# Altium footprint library IC_SMD_BGA.PCBLIB: 109 footprints (part 13 of 14)
Each footprint in its own frame and in the unit in brackets; x right, y up, seen from the top. Pads: shape width x height; smd on the part's side, far side on the other; paste and mask are expansions set on the pad; w line width, h text height; cw(c..) or ccw(c..) is an arc to the next point about the centre after c.
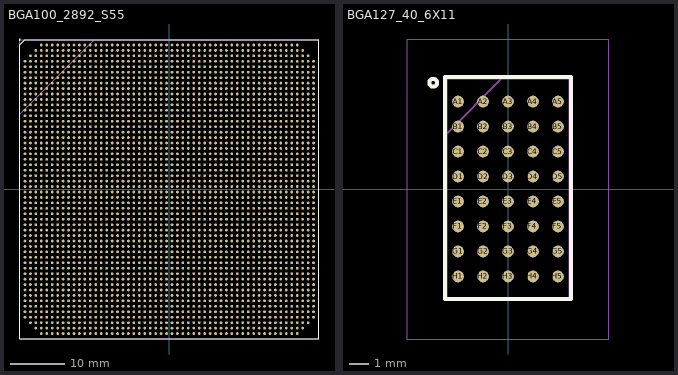
[diagram p12: the footprints below, top view; thin cyan lines are the x and y axes]

## BGA100_2892_S55 [mm] "BGA, 2892-Leads, Body 55x55mmx4.30mm, Pitch 1.00mm"
pads (2892):
  round 0.5 smd: A4(-23.5,26.5) A5(-22.5,26.5) A6(-21.5,26.5) A7(-20.5,26.5) A8(-19.5,26.5) A9(-18.5,26.5) A10(-17.5,26.5) A11(-16.5,26.5) A12(-15.5,26.5) A13(-14.5,26.5) A14(-13.5,26.5) A15(-12.5,26.5) A16(-11.5,26.5) A17(-10.5,26.5) A18(-9.5,26.5) A19(-8.5,26.5) A20(-7.5,26.5) A21(-6.5,26.5) A22(-5.5,26.5) A23(-4.5,26.5) A24(-3.5,26.5) A25(-2.5,26.5) A26(-1.5,26.5) A27(-0.5,26.5) A28(0.5,26.5) A29(1.5,26.5) A30(2.5,26.5) A31(3.5,26.5) A32(4.5,26.5) A33(5.5,26.5) A34(6.5,26.5) A35(7.5,26.5) A36(8.5,26.5) A37(9.5,26.5) A38(10.5,26.5) A39(11.5,26.5) A40(12.5,26.5) A41(13.5,26.5) A42(14.5,26.5) A43(15.5,26.5) A44(16.5,26.5) A45(17.5,26.5) A46(18.5,26.5) A47(19.5,26.5) A48(20.5,26.5) A49(21.5,26.5) A50(22.5,26.5) A51(23.5,26.5) AA1(-26.5,6.5) AA2(-25.5,6.5) AA3(-24.5,6.5) AA4(-23.5,6.5) AA5(-22.5,6.5) AA6(-21.5,6.5) AA7(-20.5,6.5) AA8(-19.5,6.5) AA9(-18.5,6.5) AA10(-17.5,6.5) AA11(-16.5,6.5) AA12(-15.5,6.5) AA13(-14.5,6.5) AA14(-13.5,6.5) AA15(-12.5,6.5) AA16(-11.5,6.5) AA17(-10.5,6.5) AA18(-9.5,6.5) AA19(-8.5,6.5) AA20(-7.5,6.5) AA21(-6.5,6.5) AA22(-5.5,6.5) AA23(-4.5,6.5) AA24(-3.5,6.5) AA25(-2.5,6.5) AA26(-1.5,6.5) AA27(-0.5,6.5) AA28(0.5,6.5) AA29(1.5,6.5) AA30(2.5,6.5) AA31(3.5,6.5) AA32(4.5,6.5) AA33(5.5,6.5) AA34(6.5,6.5) AA35(7.5,6.5) AA36(8.5,6.5) AA37(9.5,6.5) AA38(10.5,6.5) AA39(11.5,6.5) AA40(12.5,6.5) AA41(13.5,6.5) AA42(14.5,6.5) AA43(15.5,6.5) AA44(16.5,6.5) AA45(17.5,6.5) AA46(18.5,6.5) AA47(19.5,6.5) AA48(20.5,6.5) AA49(21.5,6.5) AA50(22.5,6.5) AA51(23.5,6.5) AA52(24.5,6.5) AA53(25.5,6.5) AA54(26.5,6.5) AB1(-26.5,5.5) AB2(-25.5,5.5) AB3(-24.5,5.5) AB4(-23.5,5.5) AB5(-22.5,5.5) AB6(-21.5,5.5) AB7(-20.5,5.5) AB8(-19.5,5.5) AB9(-18.5,5.5) AB10(-17.5,5.5) AB11(-16.5,5.5) AB12(-15.5,5.5) AB13(-14.5,5.5) AB14(-13.5,5.5) AB15(-12.5,5.5) AB16(-11.5,5.5) AB17(-10.5,5.5) AB18(-9.5,5.5) AB19(-8.5,5.5) AB20(-7.5,5.5) AB21(-6.5,5.5) AB22(-5.5,5.5) AB23(-4.5,5.5) AB24(-3.5,5.5) AB25(-2.5,5.5) AB26(-1.5,5.5) AB27(-0.5,5.5) AB28(0.5,5.5) AB29(1.5,5.5) AB30(2.5,5.5) AB31(3.5,5.5) AB32(4.5,5.5) AB33(5.5,5.5) AB34(6.5,5.5) AB35(7.5,5.5) AB36(8.5,5.5) AB37(9.5,5.5) AB38(10.5,5.5) AB39(11.5,5.5) AB40(12.5,5.5) AB41(13.5,5.5) AB42(14.5,5.5) AB43(15.5,5.5) AB44(16.5,5.5) AB45(17.5,5.5) AB46(18.5,5.5) AB47(19.5,5.5) AB48(20.5,5.5) AB49(21.5,5.5) AB50(22.5,5.5) AB51(23.5,5.5) AB52(24.5,5.5) AB53(25.5,5.5) AB54(26.5,5.5) AC1(-26.5,4.5) AC2(-25.5,4.5) AC3(-24.5,4.5) AC4(-23.5,4.5) AC5(-22.5,4.5) AC6(-21.5,4.5) AC7(-20.5,4.5) AC8(-19.5,4.5) AC9(-18.5,4.5) AC10(-17.5,4.5) AC11(-16.5,4.5) AC12(-15.5,4.5) AC13(-14.5,4.5) AC14(-13.5,4.5) AC15(-12.5,4.5) AC16(-11.5,4.5) AC17(-10.5,4.5) AC18(-9.5,4.5) AC19(-8.5,4.5) AC20(-7.5,4.5) AC21(-6.5,4.5) AC22(-5.5,4.5) AC23(-4.5,4.5) AC24(-3.5,4.5) AC25(-2.5,4.5) AC26(-1.5,4.5) AC27(-0.5,4.5) AC28(0.5,4.5) AC29(1.5,4.5) AC30(2.5,4.5) AC31(3.5,4.5) AC32(4.5,4.5) AC33(5.5,4.5) AC34(6.5,4.5) AC35(7.5,4.5) AC36(8.5,4.5) AC37(9.5,4.5) AC38(10.5,4.5) AC39(11.5,4.5) AC40(12.5,4.5) AC41(13.5,4.5) AC42(14.5,4.5) AC43(15.5,4.5) AC44(16.5,4.5) AC45(17.5,4.5) AC46(18.5,4.5) AC47(19.5,4.5) AC48(20.5,4.5) AC49(21.5,4.5) AC50(22.5,4.5) AC51(23.5,4.5) AC52(24.5,4.5) AC53(25.5,4.5) AC54(26.5,4.5) AD1(-26.5,3.5) AD2(-25.5,3.5) AD3(-24.5,3.5) AD4(-23.5,3.5) AD5(-22.5,3.5) AD6(-21.5,3.5) AD7(-20.5,3.5) AD8(-19.5,3.5) AD9(-18.5,3.5) AD10(-17.5,3.5) AD11(-16.5,3.5) AD12(-15.5,3.5) AD13(-14.5,3.5) AD14(-13.5,3.5) AD15(-12.5,3.5) AD16(-11.5,3.5) AD17(-10.5,3.5) AD18(-9.5,3.5) AD19(-8.5,3.5) AD20(-7.5,3.5) AD21(-6.5,3.5) AD22(-5.5,3.5) AD23(-4.5,3.5) AD24(-3.5,3.5) AD25(-2.5,3.5) AD26(-1.5,3.5) AD27(-0.5,3.5) AD28(0.5,3.5) AD29(1.5,3.5) AD30(2.5,3.5) AD31(3.5,3.5) AD32(4.5,3.5) AD33(5.5,3.5) AD34(6.5,3.5) AD35(7.5,3.5) AD36(8.5,3.5) AD37(9.5,3.5) AD38(10.5,3.5) AD39(11.5,3.5) AD40(12.5,3.5) AD41(13.5,3.5) AD42(14.5,3.5) AD43(15.5,3.5) AD44(16.5,3.5) AD45(17.5,3.5) AD46(18.5,3.5) AD47(19.5,3.5) AD48(20.5,3.5) AD49(21.5,3.5) AD50(22.5,3.5) AD51(23.5,3.5) AD52(24.5,3.5) AD53(25.5,3.5) AD54(26.5,3.5) AE1(-26.5,2.5) AE2(-25.5,2.5) AE3(-24.5,2.5) AE4(-23.5,2.5) AE5(-22.5,2.5) AE6(-21.5,2.5) AE7(-20.5,2.5) AE8(-19.5,2.5) AE9(-18.5,2.5) AE10(-17.5,2.5) AE11(-16.5,2.5) AE12(-15.5,2.5) AE13(-14.5,2.5) AE14(-13.5,2.5) AE15(-12.5,2.5) AE16(-11.5,2.5) AE17(-10.5,2.5) AE18(-9.5,2.5) AE19(-8.5,2.5) AE20(-7.5,2.5) AE21(-6.5,2.5) AE22(-5.5,2.5) AE23(-4.5,2.5) AE24(-3.5,2.5) AE25(-2.5,2.5) AE26(-1.5,2.5) AE27(-0.5,2.5) AE28(0.5,2.5) AE29(1.5,2.5) AE30(2.5,2.5) AE31(3.5,2.5) AE32(4.5,2.5) AE33(5.5,2.5) AE34(6.5,2.5) AE35(7.5,2.5) AE36(8.5,2.5) AE37(9.5,2.5) AE38(10.5,2.5) AE39(11.5,2.5) AE40(12.5,2.5) AE41(13.5,2.5) AE42(14.5,2.5) AE43(15.5,2.5) AE44(16.5,2.5) AE45(17.5,2.5) AE46(18.5,2.5) AE47(19.5,2.5) AE48(20.5,2.5) AE49(21.5,2.5) AE50(22.5,2.5) AE51(23.5,2.5) AE52(24.5,2.5) AE53(25.5,2.5) AE54(26.5,2.5) AF1(-26.5,1.5) AF2(-25.5,1.5) AF3(-24.5,1.5) AF4(-23.5,1.5) AF5(-22.5,1.5) AF6(-21.5,1.5) AF7(-20.5,1.5) AF8(-19.5,1.5) AF9(-18.5,1.5) AF10(-17.5,1.5) AF11(-16.5,1.5) AF12(-15.5,1.5) AF13(-14.5,1.5) AF14(-13.5,1.5) AF15(-12.5,1.5) AF16(-11.5,1.5) AF17(-10.5,1.5) AF18(-9.5,1.5) AF19(-8.5,1.5) AF20(-7.5,1.5) AF21(-6.5,1.5) AF22(-5.5,1.5) AF23(-4.5,1.5) AF24(-3.5,1.5) AF25(-2.5,1.5) AF26(-1.5,1.5) AF27(-0.5,1.5) AF28(0.5,1.5) AF29(1.5,1.5) AF30(2.5,1.5) AF31(3.5,1.5) AF32(4.5,1.5) AF33(5.5,1.5) AF34(6.5,1.5) AF35(7.5,1.5) AF36(8.5,1.5) AF37(9.5,1.5) AF38(10.5,1.5) AF39(11.5,1.5) AF40(12.5,1.5) AF41(13.5,1.5) AF42(14.5,1.5) AF43(15.5,1.5) AF44(16.5,1.5) AF45(17.5,1.5) AF46(18.5,1.5) AF47(19.5,1.5) AF48(20.5,1.5) AF49(21.5,1.5) AF50(22.5,1.5) AF51(23.5,1.5) AF52(24.5,1.5) AF53(25.5,1.5) AF54(26.5,1.5) AG1(-26.5,0.5) AG2(-25.5,0.5) AG3(-24.5,0.5) AG4(-23.5,0.5) AG5(-22.5,0.5) AG6(-21.5,0.5) AG7(-20.5,0.5) AG8(-19.5,0.5) AG9(-18.5,0.5) AG10(-17.5,0.5) AG11(-16.5,0.5) AG12(-15.5,0.5) AG13(-14.5,0.5) AG14(-13.5,0.5) AG15(-12.5,0.5) AG16(-11.5,0.5) AG17(-10.5,0.5) AG18(-9.5,0.5) AG19(-8.5,0.5) AG20(-7.5,0.5) AG21(-6.5,0.5) AG22(-5.5,0.5) AG23(-4.5,0.5) AG24(-3.5,0.5) AG25(-2.5,0.5) AG26(-1.5,0.5) AG27(-0.5,0.5) AG28(0.5,0.5) AG29(1.5,0.5) AG30(2.5,0.5) AG31(3.5,0.5) AG32(4.5,0.5) AG33(5.5,0.5) AG34(6.5,0.5) AG35(7.5,0.5) AG36(8.5,0.5) AG37(9.5,0.5) AG38(10.5,0.5) AG39(11.5,0.5) AG40(12.5,0.5) AG41(13.5,0.5) AG42(14.5,0.5) AG43(15.5,0.5) AG44(16.5,0.5) AG45(17.5,0.5) AG46(18.5,0.5) AG47(19.5,0.5) AG48(20.5,0.5) AG49(21.5,0.5) AG50(22.5,0.5) AG51(23.5,0.5) AG52(24.5,0.5) AG53(25.5,0.5) AG54(26.5,0.5) AH1(-26.5,-0.5) AH2(-25.5,-0.5) AH3(-24.5,-0.5) AH4(-23.5,-0.5) AH5(-22.5,-0.5) AH6(-21.5,-0.5) AH7(-20.5,-0.5) AH8(-19.5,-0.5) AH9(-18.5,-0.5) AH10(-17.5,-0.5) AH11(-16.5,-0.5) AH12(-15.5,-0.5) AH13(-14.5,-0.5) AH14(-13.5,-0.5) AH15(-12.5,-0.5) AH16(-11.5,-0.5) AH17(-10.5,-0.5) AH18(-9.5,-0.5) AH19(-8.5,-0.5) AH20(-7.5,-0.5) AH21(-6.5,-0.5) AH22(-5.5,-0.5) AH23(-4.5,-0.5) AH24(-3.5,-0.5) AH25(-2.5,-0.5) AH26(-1.5,-0.5) AH27(-0.5,-0.5) AH28(0.5,-0.5) AH29(1.5,-0.5) AH30(2.5,-0.5) AH31(3.5,-0.5) AH32(4.5,-0.5) AH33(5.5,-0.5) AH34(6.5,-0.5) AH35(7.5,-0.5) AH36(8.5,-0.5) AH37(9.5,-0.5) AH38(10.5,-0.5) AH39(11.5,-0.5) AH40(12.5,-0.5) AH41(13.5,-0.5) AH42(14.5,-0.5) AH43(15.5,-0.5) AH44(16.5,-0.5) AH45(17.5,-0.5) AH46(18.5,-0.5) AH47(19.5,-0.5) AH48(20.5,-0.5) AH49(21.5,-0.5) AH50(22.5,-0.5) AH51(23.5,-0.5) AH52(24.5,-0.5) AH53(25.5,-0.5) AH54(26.5,-0.5) AJ1(-26.5,-1.5) AJ2(-25.5,-1.5) AJ3(-24.5,-1.5) AJ4(-23.5,-1.5) AJ5(-22.5,-1.5) AJ6(-21.5,-1.5) AJ7(-20.5,-1.5) AJ8(-19.5,-1.5) AJ9(-18.5,-1.5) AJ10(-17.5,-1.5) AJ11(-16.5,-1.5) AJ12(-15.5,-1.5) AJ13(-14.5,-1.5) AJ14(-13.5,-1.5) AJ15(-12.5,-1.5) AJ16(-11.5,-1.5) AJ17(-10.5,-1.5) AJ18(-9.5,-1.5) AJ19(-8.5,-1.5) AJ20(-7.5,-1.5) AJ21(-6.5,-1.5) AJ22(-5.5,-1.5) AJ23(-4.5,-1.5) AJ24(-3.5,-1.5) AJ25(-2.5,-1.5) AJ26(-1.5,-1.5) AJ27(-0.5,-1.5) AJ28(0.5,-1.5) AJ29(1.5,-1.5) AJ30(2.5,-1.5) AJ31(3.5,-1.5) AJ32(4.5,-1.5) AJ33(5.5,-1.5) AJ34(6.5,-1.5) AJ35(7.5,-1.5) AJ36(8.5,-1.5) AJ37(9.5,-1.5) AJ38(10.5,-1.5) AJ39(11.5,-1.5) AJ40(12.5,-1.5) AJ41(13.5,-1.5) AJ42(14.5,-1.5) AJ43(15.5,-1.5) AJ44(16.5,-1.5) AJ45(17.5,-1.5) AJ46(18.5,-1.5) AJ47(19.5,-1.5) AJ48(20.5,-1.5) AJ49(21.5,-1.5) AJ50(22.5,-1.5) AJ51(23.5,-1.5) AJ52(24.5,-1.5) AJ53(25.5,-1.5) AJ54(26.5,-1.5) AK1(-26.5,-2.5) AK2(-25.5,-2.5) AK3(-24.5,-2.5) AK4(-23.5,-2.5) AK5(-22.5,-2.5) AK6(-21.5,-2.5) AK7(-20.5,-2.5) AK8(-19.5,-2.5) AK9(-18.5,-2.5) AK10(-17.5,-2.5) AK11(-16.5,-2.5) AK12(-15.5,-2.5) AK13(-14.5,-2.5) AK14(-13.5,-2.5) AK15(-12.5,-2.5) AK16(-11.5,-2.5) AK17(-10.5,-2.5) AK18(-9.5,-2.5) AK19(-8.5,-2.5) AK20(-7.5,-2.5) AK21(-6.5,-2.5) AK22(-5.5,-2.5) AK23(-4.5,-2.5) AK24(-3.5,-2.5) AK25(-2.5,-2.5) AK26(-1.5,-2.5) AK27(-0.5,-2.5) AK28(0.5,-2.5) AK29(1.5,-2.5) AK30(2.5,-2.5) AK31(3.5,-2.5) AK32(4.5,-2.5) AK33(5.5,-2.5) AK34(6.5,-2.5) AK35(7.5,-2.5) AK36(8.5,-2.5) AK37(9.5,-2.5) AK38(10.5,-2.5) AK39(11.5,-2.5) AK40(12.5,-2.5) AK41(13.5,-2.5) AK42(14.5,-2.5) AK43(15.5,-2.5) AK44(16.5,-2.5) AK45(17.5,-2.5) AK46(18.5,-2.5) AK47(19.5,-2.5) AK48(20.5,-2.5) AK49(21.5,-2.5) AK50(22.5,-2.5) AK51(23.5,-2.5) AK52(24.5,-2.5) AK53(25.5,-2.5) AK54(26.5,-2.5) AL1(-26.5,-3.5) AL2(-25.5,-3.5) AL3(-24.5,-3.5) AL4(-23.5,-3.5) AL5(-22.5,-3.5) AL6(-21.5,-3.5) AL7(-20.5,-3.5) AL8(-19.5,-3.5) AL9(-18.5,-3.5) AL10(-17.5,-3.5) AL11(-16.5,-3.5) AL12(-15.5,-3.5) AL13(-14.5,-3.5) AL14(-13.5,-3.5) AL15(-12.5,-3.5) AL16(-11.5,-3.5) AL17(-10.5,-3.5) AL18(-9.5,-3.5) AL19(-8.5,-3.5) AL20(-7.5,-3.5) AL21(-6.5,-3.5) AL22(-5.5,-3.5) AL23(-4.5,-3.5) AL24(-3.5,-3.5) AL25(-2.5,-3.5) AL26(-1.5,-3.5) AL27(-0.5,-3.5) AL28(0.5,-3.5) AL29(1.5,-3.5) AL30(2.5,-3.5) AL31(3.5,-3.5) AL32(4.5,-3.5) AL33(5.5,-3.5) AL34(6.5,-3.5) AL35(7.5,-3.5) AL36(8.5,-3.5) AL37(9.5,-3.5) AL38(10.5,-3.5) AL39(11.5,-3.5) AL40(12.5,-3.5) AL41(13.5,-3.5) AL42(14.5,-3.5) AL43(15.5,-3.5) AL44(16.5,-3.5) AL45(17.5,-3.5) AL46(18.5,-3.5) AL47(19.5,-3.5) AL48(20.5,-3.5) AL49(21.5,-3.5) AL50(22.5,-3.5) AL51(23.5,-3.5) AL52(24.5,-3.5) AL53(25.5,-3.5) AL54(26.5,-3.5) AM1(-26.5,-4.5) AM2(-25.5,-4.5) AM3(-24.5,-4.5) AM4(-23.5,-4.5) AM5(-22.5,-4.5) AM6(-21.5,-4.5) AM7(-20.5,-4.5) AM8(-19.5,-4.5) AM9(-18.5,-4.5) AM10(-17.5,-4.5) AM11(-16.5,-4.5) AM12(-15.5,-4.5) AM13(-14.5,-4.5) AM14(-13.5,-4.5) AM15(-12.5,-4.5) AM16(-11.5,-4.5) AM17(-10.5,-4.5) AM18(-9.5,-4.5) AM19(-8.5,-4.5) AM20(-7.5,-4.5) AM21(-6.5,-4.5) AM22(-5.5,-4.5) AM23(-4.5,-4.5) AM24(-3.5,-4.5) AM25(-2.5,-4.5) AM26(-1.5,-4.5) AM27(-0.5,-4.5) AM28(0.5,-4.5) AM29(1.5,-4.5) AM30(2.5,-4.5) AM31(3.5,-4.5) AM32(4.5,-4.5) AM33(5.5,-4.5) AM34(6.5,-4.5) AM35(7.5,-4.5) AM36(8.5,-4.5) AM37(9.5,-4.5) AM38(10.5,-4.5) AM39(11.5,-4.5) AM40(12.5,-4.5) AM41(13.5,-4.5) AM42(14.5,-4.5) AM43(15.5,-4.5) AM44(16.5,-4.5) AM45(17.5,-4.5) AM46(18.5,-4.5) AM47(19.5,-4.5) AM48(20.5,-4.5) AM49(21.5,-4.5) AM50(22.5,-4.5) AM51(23.5,-4.5) AM52(24.5,-4.5) AM53(25.5,-4.5) AM54(26.5,-4.5) AN1(-26.5,-5.5) AN2(-25.5,-5.5) AN3(-24.5,-5.5) AN4(-23.5,-5.5) AN5(-22.5,-5.5) AN6(-21.5,-5.5) AN7(-20.5,-5.5) AN8(-19.5,-5.5) AN9(-18.5,-5.5) AN10(-17.5,-5.5) AN11(-16.5,-5.5) AN12(-15.5,-5.5) AN13(-14.5,-5.5) AN14(-13.5,-5.5) AN15(-12.5,-5.5) AN16(-11.5,-5.5) AN17(-10.5,-5.5) AN18(-9.5,-5.5) AN19(-8.5,-5.5) AN20(-7.5,-5.5) AN21(-6.5,-5.5) AN22(-5.5,-5.5) AN23(-4.5,-5.5) AN24(-3.5,-5.5) AN25(-2.5,-5.5) AN26(-1.5,-5.5) AN27(-0.5,-5.5) AN28(0.5,-5.5) AN29(1.5,-5.5) AN30(2.5,-5.5) AN31(3.5,-5.5) AN32(4.5,-5.5) AN33(5.5,-5.5) AN34(6.5,-5.5) AN35(7.5,-5.5) AN36(8.5,-5.5) AN37(9.5,-5.5) AN38(10.5,-5.5) AN39(11.5,-5.5) AN40(12.5,-5.5) AN41(13.5,-5.5) AN42(14.5,-5.5) AN43(15.5,-5.5) AN44(16.5,-5.5) AN45(17.5,-5.5) AN46(18.5,-5.5) AN47(19.5,-5.5) AN48(20.5,-5.5) AN49(21.5,-5.5) AN50(22.5,-5.5) AN51(23.5,-5.5) AN52(24.5,-5.5) AN53(25.5,-5.5) AN54(26.5,-5.5) AP1(-26.5,-6.5) AP2(-25.5,-6.5) AP3(-24.5,-6.5) AP4(-23.5,-6.5) AP5(-22.5,-6.5) AP6(-21.5,-6.5) AP7(-20.5,-6.5) AP8(-19.5,-6.5) AP9(-18.5,-6.5) AP10(-17.5,-6.5) AP11(-16.5,-6.5) AP12(-15.5,-6.5) AP13(-14.5,-6.5) AP14(-13.5,-6.5) AP15(-12.5,-6.5) AP16(-11.5,-6.5) AP17(-10.5,-6.5) AP18(-9.5,-6.5) AP19(-8.5,-6.5) AP20(-7.5,-6.5) AP21(-6.5,-6.5) AP22(-5.5,-6.5) AP23(-4.5,-6.5) AP24(-3.5,-6.5) AP25(-2.5,-6.5) AP26(-1.5,-6.5) AP27(-0.5,-6.5) AP28(0.5,-6.5) AP29(1.5,-6.5) AP30(2.5,-6.5) AP31(3.5,-6.5) AP32(4.5,-6.5) AP33(5.5,-6.5) AP34(6.5,-6.5) AP35(7.5,-6.5) AP36(8.5,-6.5) AP37(9.5,-6.5) AP38(10.5,-6.5) AP39(11.5,-6.5) AP40(12.5,-6.5) AP41(13.5,-6.5) AP42(14.5,-6.5) AP43(15.5,-6.5) AP44(16.5,-6.5) AP45(17.5,-6.5) AP46(18.5,-6.5) AP47(19.5,-6.5) AP48(20.5,-6.5) AP49(21.5,-6.5) AP50(22.5,-6.5) AP51(23.5,-6.5) AP52(24.5,-6.5) AP53(25.5,-6.5) AP54(26.5,-6.5) AR1(-26.5,-7.5) AR2(-25.5,-7.5) AR3(-24.5,-7.5) AR4(-23.5,-7.5) AR5(-22.5,-7.5) AR6(-21.5,-7.5) AR7(-20.5,-7.5) AR8(-19.5,-7.5) AR9(-18.5,-7.5) AR10(-17.5,-7.5) AR11(-16.5,-7.5) AR12(-15.5,-7.5) AR13(-14.5,-7.5) AR14(-13.5,-7.5) AR15(-12.5,-7.5) AR16(-11.5,-7.5) AR17(-10.5,-7.5) AR18(-9.5,-7.5) AR19(-8.5,-7.5) AR20(-7.5,-7.5) AR21(-6.5,-7.5) AR22(-5.5,-7.5) AR23(-4.5,-7.5) AR24(-3.5,-7.5) AR25(-2.5,-7.5) AR26(-1.5,-7.5) AR27(-0.5,-7.5) AR28(0.5,-7.5) AR29(1.5,-7.5) AR30(2.5,-7.5) AR31(3.5,-7.5) AR32(4.5,-7.5) AR33(5.5,-7.5) AR34(6.5,-7.5) AR35(7.5,-7.5) AR36(8.5,-7.5) AR37(9.5,-7.5) AR38(10.5,-7.5) AR39(11.5,-7.5) AR40(12.5,-7.5) AR41(13.5,-7.5) AR42(14.5,-7.5) AR43(15.5,-7.5) AR44(16.5,-7.5) AR45(17.5,-7.5) AR46(18.5,-7.5) AR47(19.5,-7.5) AR48(20.5,-7.5) AR49(21.5,-7.5) AR50(22.5,-7.5) AR51(23.5,-7.5) AR52(24.5,-7.5) AR53(25.5,-7.5) AR54(26.5,-7.5) AT1(-26.5,-8.5) AT2(-25.5,-8.5) AT3(-24.5,-8.5) AT4(-23.5,-8.5) AT5(-22.5,-8.5) AT6(-21.5,-8.5) AT7(-20.5,-8.5) AT8(-19.5,-8.5) AT9(-18.5,-8.5) AT10(-17.5,-8.5) AT11(-16.5,-8.5) AT12(-15.5,-8.5) AT13(-14.5,-8.5) AT14(-13.5,-8.5) AT15(-12.5,-8.5) AT16(-11.5,-8.5) AT17(-10.5,-8.5) AT18(-9.5,-8.5) AT19(-8.5,-8.5) AT20(-7.5,-8.5) AT21(-6.5,-8.5) AT22(-5.5,-8.5) AT23(-4.5,-8.5) AT24(-3.5,-8.5) AT25(-2.5,-8.5) AT26(-1.5,-8.5) AT27(-0.5,-8.5) AT28(0.5,-8.5) AT29(1.5,-8.5) AT30(2.5,-8.5) AT31(3.5,-8.5) AT32(4.5,-8.5) AT33(5.5,-8.5) AT34(6.5,-8.5) AT35(7.5,-8.5) AT36(8.5,-8.5) AT37(9.5,-8.5) AT38(10.5,-8.5) AT39(11.5,-8.5) AT40(12.5,-8.5) AT41(13.5,-8.5) AT42(14.5,-8.5) AT43(15.5,-8.5) AT44(16.5,-8.5) AT45(17.5,-8.5) AT46(18.5,-8.5) AT47(19.5,-8.5) AT48(20.5,-8.5) AT49(21.5,-8.5) AT50(22.5,-8.5) AT51(23.5,-8.5) AT52(24.5,-8.5) AT53(25.5,-8.5) AT54(26.5,-8.5) AU1(-26.5,-9.5) AU2(-25.5,-9.5) AU3(-24.5,-9.5) AU4(-23.5,-9.5) AU5(-22.5,-9.5) AU6(-21.5,-9.5) AU7(-20.5,-9.5) AU8(-19.5,-9.5) AU9(-18.5,-9.5) AU10(-17.5,-9.5) AU11(-16.5,-9.5) AU12(-15.5,-9.5) AU13(-14.5,-9.5) AU14(-13.5,-9.5) AU15(-12.5,-9.5) AU16(-11.5,-9.5) AU17(-10.5,-9.5) AU18(-9.5,-9.5) AU19(-8.5,-9.5) AU20(-7.5,-9.5) AU21(-6.5,-9.5) AU22(-5.5,-9.5) AU23(-4.5,-9.5) AU24(-3.5,-9.5) AU25(-2.5,-9.5) AU26(-1.5,-9.5) AU27(-0.5,-9.5) AU28(0.5,-9.5) AU29(1.5,-9.5) AU30(2.5,-9.5) AU31(3.5,-9.5) AU32(4.5,-9.5) AU33(5.5,-9.5) AU34(6.5,-9.5) AU35(7.5,-9.5) AU36(8.5,-9.5) AU37(9.5,-9.5) AU38(10.5,-9.5) AU39(11.5,-9.5) AU40(12.5,-9.5) AU41(13.5,-9.5) AU42(14.5,-9.5) AU43(15.5,-9.5) AU44(16.5,-9.5) AU45(17.5,-9.5) AU46(18.5,-9.5) AU47(19.5,-9.5) AU48(20.5,-9.5) AU49(21.5,-9.5) AU50(22.5,-9.5) AU51(23.5,-9.5) AU52(24.5,-9.5) AU53(25.5,-9.5) AU54(26.5,-9.5) AV1(-26.5,-10.5) AV2(-25.5,-10.5) AV3(-24.5,-10.5) AV4(-23.5,-10.5) AV5(-22.5,-10.5) AV6(-21.5,-10.5) AV7(-20.5,-10.5) AV8(-19.5,-10.5) AV9(-18.5,-10.5) AV10(-17.5,-10.5) AV11(-16.5,-10.5) AV12(-15.5,-10.5) AV13(-14.5,-10.5) AV14(-13.5,-10.5) AV15(-12.5,-10.5) AV16(-11.5,-10.5) AV17(-10.5,-10.5) AV18(-9.5,-10.5) AV19(-8.5,-10.5) AV20(-7.5,-10.5) AV21(-6.5,-10.5) AV22(-5.5,-10.5) AV23(-4.5,-10.5) AV24(-3.5,-10.5) AV25(-2.5,-10.5) AV26(-1.5,-10.5) AV27(-0.5,-10.5) AV28(0.5,-10.5) AV29(1.5,-10.5) AV30(2.5,-10.5) AV31(3.5,-10.5) AV32(4.5,-10.5) AV33(5.5,-10.5) AV34(6.5,-10.5) AV35(7.5,-10.5) AV36(8.5,-10.5) AV37(9.5,-10.5) AV38(10.5,-10.5) AV39(11.5,-10.5) AV40(12.5,-10.5) AV41(13.5,-10.5) AV42(14.5,-10.5) AV43(15.5,-10.5) AV44(16.5,-10.5) AV45(17.5,-10.5) AV46(18.5,-10.5) AV47(19.5,-10.5) AV48(20.5,-10.5) AV49(21.5,-10.5) AV50(22.5,-10.5) AV51(23.5,-10.5) AV52(24.5,-10.5) AV53(25.5,-10.5) AV54(26.5,-10.5) AW1(-26.5,-11.5) AW2(-25.5,-11.5) AW3(-24.5,-11.5) AW4(-23.5,-11.5) AW5(-22.5,-11.5) AW6(-21.5,-11.5) AW7(-20.5,-11.5) AW8(-19.5,-11.5) AW9(-18.5,-11.5) AW10(-17.5,-11.5) AW11(-16.5,-11.5) AW12(-15.5,-11.5) AW13(-14.5,-11.5) AW14(-13.5,-11.5) AW15(-12.5,-11.5) AW16(-11.5,-11.5) AW17(-10.5,-11.5) AW18(-9.5,-11.5) AW19(-8.5,-11.5) AW20(-7.5,-11.5) AW21(-6.5,-11.5) AW22(-5.5,-11.5) AW23(-4.5,-11.5) AW24(-3.5,-11.5) AW25(-2.5,-11.5) AW26(-1.5,-11.5) AW27(-0.5,-11.5) AW28(0.5,-11.5) AW29(1.5,-11.5) AW30(2.5,-11.5) AW31(3.5,-11.5) AW32(4.5,-11.5) AW33(5.5,-11.5) AW34(6.5,-11.5) AW35(7.5,-11.5) AW36(8.5,-11.5) AW37(9.5,-11.5) AW38(10.5,-11.5) AW39(11.5,-11.5) AW40(12.5,-11.5) AW41(13.5,-11.5) AW42(14.5,-11.5) AW43(15.5,-11.5) AW44(16.5,-11.5) AW45(17.5,-11.5) AW46(18.5,-11.5) AW47(19.5,-11.5) AW48(20.5,-11.5) AW49(21.5,-11.5) AW50(22.5,-11.5) AW51(23.5,-11.5) AW52(24.5,-11.5) AW53(25.5,-11.5) AW54(26.5,-11.5) AY1(-26.5,-12.5) AY2(-25.5,-12.5) AY3(-24.5,-12.5) AY4(-23.5,-12.5) AY5(-22.5,-12.5) AY6(-21.5,-12.5) AY7(-20.5,-12.5) AY8(-19.5,-12.5) AY9(-18.5,-12.5) AY10(-17.5,-12.5) AY11(-16.5,-12.5) AY12(-15.5,-12.5) AY13(-14.5,-12.5) AY14(-13.5,-12.5) AY15(-12.5,-12.5) AY16(-11.5,-12.5) AY17(-10.5,-12.5) AY18(-9.5,-12.5) AY19(-8.5,-12.5) AY20(-7.5,-12.5) AY21(-6.5,-12.5) AY22(-5.5,-12.5) AY23(-4.5,-12.5) AY24(-3.5,-12.5) AY25(-2.5,-12.5) AY26(-1.5,-12.5) AY27(-0.5,-12.5) AY28(0.5,-12.5) AY29(1.5,-12.5) AY30(2.5,-12.5) AY31(3.5,-12.5) AY32(4.5,-12.5) AY33(5.5,-12.5) AY34(6.5,-12.5) AY35(7.5,-12.5) AY36(8.5,-12.5) AY37(9.5,-12.5) AY38(10.5,-12.5) AY39(11.5,-12.5) AY40(12.5,-12.5) AY41(13.5,-12.5) AY42(14.5,-12.5) AY43(15.5,-12.5) AY44(16.5,-12.5) AY45(17.5,-12.5) AY46(18.5,-12.5) AY47(19.5,-12.5) AY48(20.5,-12.5) AY49(21.5,-12.5) AY50(22.5,-12.5) AY51(23.5,-12.5) AY52(24.5,-12.5) AY53(25.5,-12.5) AY54(26.5,-12.5) B3(-24.5,25.5) B4(-23.5,25.5) B5(-22.5,25.5) B6(-21.5,25.5) B7(-20.5,25.5) B8(-19.5,25.5) B9(-18.5,25.5) B10(-17.5,25.5) B11(-16.5,25.5) B12(-15.5,25.5) B13(-14.5,25.5) B14(-13.5,25.5) B15(-12.5,25.5) B16(-11.5,25.5) B17(-10.5,25.5) B18(-9.5,25.5) B19(-8.5,25.5) B20(-7.5,25.5) B21(-6.5,25.5) B22(-5.5,25.5) B23(-4.5,25.5) B24(-3.5,25.5) B25(-2.5,25.5) B26(-1.5,25.5) B27(-0.5,25.5) B28(0.5,25.5) B29(1.5,25.5) B30(2.5,25.5) B31(3.5,25.5) B32(4.5,25.5) B33(5.5,25.5) B34(6.5,25.5) B35(7.5,25.5) B36(8.5,25.5) B37(9.5,25.5) B38(10.5,25.5) B39(11.5,25.5) B40(12.5,25.5) B41(13.5,25.5) B42(14.5,25.5) B43(15.5,25.5) B44(16.5,25.5) B45(17.5,25.5) B46(18.5,25.5) B47(19.5,25.5) B48(20.5,25.5) B49(21.5,25.5) B50(22.5,25.5) B51(23.5,25.5) B52(24.5,25.5) BA1(-26.5,-13.5) BA2(-25.5,-13.5) BA3(-24.5,-13.5) BA4(-23.5,-13.5) BA5(-22.5,-13.5) BA6(-21.5,-13.5) BA7(-20.5,-13.5) BA8(-19.5,-13.5) BA9(-18.5,-13.5) BA10(-17.5,-13.5) BA11(-16.5,-13.5) BA12(-15.5,-13.5) BA13(-14.5,-13.5) BA14(-13.5,-13.5) BA15(-12.5,-13.5) BA16(-11.5,-13.5) BA17(-10.5,-13.5) BA18(-9.5,-13.5) BA19(-8.5,-13.5) BA20(-7.5,-13.5) BA21(-6.5,-13.5) BA22(-5.5,-13.5) BA23(-4.5,-13.5) BA24(-3.5,-13.5) BA25(-2.5,-13.5) BA26(-1.5,-13.5) BA27(-0.5,-13.5) BA28(0.5,-13.5) BA29(1.5,-13.5) BA30(2.5,-13.5) BA31(3.5,-13.5) BA32(4.5,-13.5) BA33(5.5,-13.5) BA34(6.5,-13.5) BA35(7.5,-13.5) BA36(8.5,-13.5) BA37(9.5,-13.5) BA38(10.5,-13.5) BA39(11.5,-13.5) BA40(12.5,-13.5) BA41(13.5,-13.5) BA42(14.5,-13.5) BA43(15.5,-13.5) BA44(16.5,-13.5) BA45(17.5,-13.5) BA46(18.5,-13.5) BA47(19.5,-13.5) BA48(20.5,-13.5) BA49(21.5,-13.5) BA50(22.5,-13.5) BA51(23.5,-13.5) BA52(24.5,-13.5) BA53(25.5,-13.5) BA54(26.5,-13.5) BB1(-26.5,-14.5) BB2(-25.5,-14.5) BB3(-24.5,-14.5) BB4(-23.5,-14.5) BB5(-22.5,-14.5) BB6(-21.5,-14.5) BB7(-20.5,-14.5) BB8(-19.5,-14.5) BB9(-18.5,-14.5) BB10(-17.5,-14.5) BB11(-16.5,-14.5) BB12(-15.5,-14.5) BB13(-14.5,-14.5) BB14(-13.5,-14.5) BB15(-12.5,-14.5) BB16(-11.5,-14.5) BB17(-10.5,-14.5) BB18(-9.5,-14.5) BB19(-8.5,-14.5) BB20(-7.5,-14.5) BB21(-6.5,-14.5) BB22(-5.5,-14.5) BB23(-4.5,-14.5) BB24(-3.5,-14.5) BB25(-2.5,-14.5) BB26(-1.5,-14.5) BB27(-0.5,-14.5) BB28(0.5,-14.5) BB29(1.5,-14.5) BB30(2.5,-14.5) BB31(3.5,-14.5) BB32(4.5,-14.5) BB33(5.5,-14.5) BB34(6.5,-14.5) BB35(7.5,-14.5) BB36(8.5,-14.5) BB37(9.5,-14.5) BB38(10.5,-14.5) BB39(11.5,-14.5) BB40(12.5,-14.5) BB41(13.5,-14.5) BB42(14.5,-14.5) BB43(15.5,-14.5) BB44(16.5,-14.5) BB45(17.5,-14.5) BB46(18.5,-14.5) BB47(19.5,-14.5) BB48(20.5,-14.5) BB49(21.5,-14.5) BB50(22.5,-14.5) BB51(23.5,-14.5) BB52(24.5,-14.5) BB53(25.5,-14.5) BB54(26.5,-14.5) BC1(-26.5,-15.5) BC2(-25.5,-15.5) BC3(-24.5,-15.5) BC4(-23.5,-15.5) BC5(-22.5,-15.5) BC6(-21.5,-15.5) BC7(-20.5,-15.5) BC8(-19.5,-15.5) BC9(-18.5,-15.5) BC10(-17.5,-15.5) BC11(-16.5,-15.5) BC12(-15.5,-15.5) BC13(-14.5,-15.5) BC14(-13.5,-15.5) BC15(-12.5,-15.5) BC16(-11.5,-15.5) BC17(-10.5,-15.5) BC18(-9.5,-15.5) BC19(-8.5,-15.5) BC20(-7.5,-15.5) BC21(-6.5,-15.5) BC22(-5.5,-15.5) BC23(-4.5,-15.5) BC24(-3.5,-15.5) BC25(-2.5,-15.5) BC26(-1.5,-15.5) BC27(-0.5,-15.5) BC28(0.5,-15.5) BC29(1.5,-15.5) BC30(2.5,-15.5) BC31(3.5,-15.5) BC32(4.5,-15.5) BC33(5.5,-15.5) BC34(6.5,-15.5) BC35(7.5,-15.5) BC36(8.5,-15.5) BC37(9.5,-15.5) BC38(10.5,-15.5) BC39(11.5,-15.5) BC40(12.5,-15.5) BC41(13.5,-15.5) BC42(14.5,-15.5) BC43(15.5,-15.5) BC44(16.5,-15.5) BC45(17.5,-15.5) BC46(18.5,-15.5) BC47(19.5,-15.5) BC48(20.5,-15.5) BC49(21.5,-15.5) BC50(22.5,-15.5) BC51(23.5,-15.5) BC52(24.5,-15.5) BC53(25.5,-15.5) BC54(26.5,-15.5) BD1(-26.5,-16.5) BD2(-25.5,-16.5) BD3(-24.5,-16.5) BD4(-23.5,-16.5) BD5(-22.5,-16.5) BD6(-21.5,-16.5) BD7(-20.5,-16.5) BD8(-19.5,-16.5) BD9(-18.5,-16.5) BD10(-17.5,-16.5) BD11(-16.5,-16.5) BD12(-15.5,-16.5) BD13(-14.5,-16.5) BD14(-13.5,-16.5) BD15(-12.5,-16.5) BD16(-11.5,-16.5) BD17(-10.5,-16.5) BD18(-9.5,-16.5) BD19(-8.5,-16.5) BD20(-7.5,-16.5) BD21(-6.5,-16.5) BD22(-5.5,-16.5) BD23(-4.5,-16.5) BD24(-3.5,-16.5) BD25(-2.5,-16.5) BD26(-1.5,-16.5) BD27(-0.5,-16.5) BD28(0.5,-16.5) BD29(1.5,-16.5) BD30(2.5,-16.5) BD31(3.5,-16.5) BD32(4.5,-16.5) BD33(5.5,-16.5) BD34(6.5,-16.5) BD35(7.5,-16.5) BD36(8.5,-16.5) BD37(9.5,-16.5) BD38(10.5,-16.5) BD39(11.5,-16.5) BD40(12.5,-16.5) BD41(13.5,-16.5) BD42(14.5,-16.5) BD43(15.5,-16.5) BD44(16.5,-16.5) BD45(17.5,-16.5) BD46(18.5,-16.5) BD47(19.5,-16.5) BD48(20.5,-16.5) BD49(21.5,-16.5) BD50(22.5,-16.5) BD51(23.5,-16.5) BD52(24.5,-16.5) BD53(25.5,-16.5) BD54(26.5,-16.5) BE1(-26.5,-17.5) BE2(-25.5,-17.5) BE3(-24.5,-17.5) BE4(-23.5,-17.5) BE5(-22.5,-17.5) BE6(-21.5,-17.5) BE7(-20.5,-17.5) BE8(-19.5,-17.5) BE9(-18.5,-17.5) BE10(-17.5,-17.5) BE11(-16.5,-17.5) BE12(-15.5,-17.5) BE13(-14.5,-17.5) BE14(-13.5,-17.5) BE15(-12.5,-17.5) BE16(-11.5,-17.5) BE17(-10.5,-17.5) BE18(-9.5,-17.5) BE19(-8.5,-17.5) BE20(-7.5,-17.5) BE21(-6.5,-17.5) BE22(-5.5,-17.5) BE23(-4.5,-17.5) BE24(-3.5,-17.5) BE25(-2.5,-17.5) BE26(-1.5,-17.5) BE27(-0.5,-17.5) BE28(0.5,-17.5) BE29(1.5,-17.5) BE30(2.5,-17.5) BE31(3.5,-17.5) BE32(4.5,-17.5) BE33(5.5,-17.5) BE34(6.5,-17.5) BE35(7.5,-17.5) BE36(8.5,-17.5) BE37(9.5,-17.5) BE38(10.5,-17.5) BE39(11.5,-17.5) BE40(12.5,-17.5) BE41(13.5,-17.5) BE42(14.5,-17.5) BE43(15.5,-17.5) BE44(16.5,-17.5) BE45(17.5,-17.5) BE46(18.5,-17.5) BE47(19.5,-17.5) BE48(20.5,-17.5) BE49(21.5,-17.5) BE50(22.5,-17.5) BE51(23.5,-17.5) BE52(24.5,-17.5) BE53(25.5,-17.5) BE54(26.5,-17.5) BF1(-26.5,-18.5) BF2(-25.5,-18.5) BF3(-24.5,-18.5) BF4(-23.5,-18.5) BF5(-22.5,-18.5) BF6(-21.5,-18.5) BF7(-20.5,-18.5) BF8(-19.5,-18.5) BF9(-18.5,-18.5) BF10(-17.5,-18.5) BF11(-16.5,-18.5) BF12(-15.5,-18.5) BF13(-14.5,-18.5) BF14(-13.5,-18.5) BF15(-12.5,-18.5) BF16(-11.5,-18.5) BF17(-10.5,-18.5) BF18(-9.5,-18.5) BF19(-8.5,-18.5) BF20(-7.5,-18.5) BF21(-6.5,-18.5) BF22(-5.5,-18.5) BF23(-4.5,-18.5) BF24(-3.5,-18.5) BF25(-2.5,-18.5) BF26(-1.5,-18.5) BF27(-0.5,-18.5) BF28(0.5,-18.5) BF29(1.5,-18.5) BF30(2.5,-18.5) BF31(3.5,-18.5) BF32(4.5,-18.5) BF33(5.5,-18.5) BF34(6.5,-18.5) BF35(7.5,-18.5) BF36(8.5,-18.5) BF37(9.5,-18.5) BF38(10.5,-18.5) BF39(11.5,-18.5) BF40(12.5,-18.5) BF41(13.5,-18.5) BF42(14.5,-18.5) BF43(15.5,-18.5) BF44(16.5,-18.5) BF45(17.5,-18.5) BF46(18.5,-18.5) BF47(19.5,-18.5) BF48(20.5,-18.5) BF49(21.5,-18.5) BF50(22.5,-18.5) BF51(23.5,-18.5) BF52(24.5,-18.5) BF53(25.5,-18.5) BF54(26.5,-18.5) BG1(-26.5,-19.5) BG2(-25.5,-19.5) BG3(-24.5,-19.5) BG4(-23.5,-19.5) BG5(-22.5,-19.5) BG6(-21.5,-19.5) BG7(-20.5,-19.5) BG8(-19.5,-19.5) BG9(-18.5,-19.5) BG10(-17.5,-19.5) BG11(-16.5,-19.5) BG12(-15.5,-19.5) BG13(-14.5,-19.5) BG14(-13.5,-19.5) BG15(-12.5,-19.5) BG16(-11.5,-19.5) BG17(-10.5,-19.5) BG18(-9.5,-19.5) BG19(-8.5,-19.5) BG20(-7.5,-19.5) BG21(-6.5,-19.5) BG22(-5.5,-19.5) BG23(-4.5,-19.5) BG24(-3.5,-19.5) BG25(-2.5,-19.5) BG26(-1.5,-19.5) BG27(-0.5,-19.5) BG28(0.5,-19.5) BG29(1.5,-19.5) BG30(2.5,-19.5) BG31(3.5,-19.5) BG32(4.5,-19.5) BG33(5.5,-19.5) BG34(6.5,-19.5) BG35(7.5,-19.5) BG36(8.5,-19.5) BG37(9.5,-19.5) BG38(10.5,-19.5) BG39(11.5,-19.5) BG40(12.5,-19.5) BG41(13.5,-19.5) BG42(14.5,-19.5) BG43(15.5,-19.5) BG44(16.5,-19.5) BG45(17.5,-19.5) BG46(18.5,-19.5) BG47(19.5,-19.5) BG48(20.5,-19.5) BG49(21.5,-19.5) BG50(22.5,-19.5) BG51(23.5,-19.5) BG52(24.5,-19.5) BG53(25.5,-19.5) BG54(26.5,-19.5) BH1(-26.5,-20.5) BH2(-25.5,-20.5) BH3(-24.5,-20.5) BH4(-23.5,-20.5) BH5(-22.5,-20.5) BH6(-21.5,-20.5) BH7(-20.5,-20.5) BH8(-19.5,-20.5) BH9(-18.5,-20.5) BH10(-17.5,-20.5) BH11(-16.5,-20.5) BH12(-15.5,-20.5) BH13(-14.5,-20.5) BH14(-13.5,-20.5) BH15(-12.5,-20.5) BH16(-11.5,-20.5) BH17(-10.5,-20.5) BH18(-9.5,-20.5) BH19(-8.5,-20.5) BH20(-7.5,-20.5) BH21(-6.5,-20.5) BH22(-5.5,-20.5) BH23(-4.5,-20.5) BH24(-3.5,-20.5) BH25(-2.5,-20.5) BH26(-1.5,-20.5) BH27(-0.5,-20.5) BH28(0.5,-20.5) BH29(1.5,-20.5) BH30(2.5,-20.5) BH31(3.5,-20.5) BH32(4.5,-20.5) BH33(5.5,-20.5) BH34(6.5,-20.5) BH35(7.5,-20.5) BH36(8.5,-20.5) BH37(9.5,-20.5) BH38(10.5,-20.5) BH39(11.5,-20.5) BH40(12.5,-20.5) BH41(13.5,-20.5) BH42(14.5,-20.5) BH43(15.5,-20.5) BH44(16.5,-20.5) BH45(17.5,-20.5) BH46(18.5,-20.5) BH47(19.5,-20.5) BH48(20.5,-20.5) BH49(21.5,-20.5) BH50(22.5,-20.5) BH51(23.5,-20.5) BH52(24.5,-20.5) BH53(25.5,-20.5) BH54(26.5,-20.5) BJ1(-26.5,-21.5) BJ2(-25.5,-21.5) BJ3(-24.5,-21.5) BJ4(-23.5,-21.5) BJ5(-22.5,-21.5) BJ6(-21.5,-21.5) BJ7(-20.5,-21.5) BJ8(-19.5,-21.5) BJ9(-18.5,-21.5) BJ10(-17.5,-21.5) BJ11(-16.5,-21.5) BJ12(-15.5,-21.5) BJ13(-14.5,-21.5) BJ14(-13.5,-21.5) BJ15(-12.5,-21.5) BJ16(-11.5,-21.5) BJ17(-10.5,-21.5) BJ18(-9.5,-21.5) BJ19(-8.5,-21.5) BJ20(-7.5,-21.5) BJ21(-6.5,-21.5) BJ22(-5.5,-21.5) BJ23(-4.5,-21.5) BJ24(-3.5,-21.5) BJ25(-2.5,-21.5) BJ26(-1.5,-21.5) BJ27(-0.5,-21.5) BJ28(0.5,-21.5) BJ29(1.5,-21.5) BJ30(2.5,-21.5) BJ31(3.5,-21.5) BJ32(4.5,-21.5) BJ33(5.5,-21.5) BJ34(6.5,-21.5) BJ35(7.5,-21.5) BJ36(8.5,-21.5) BJ37(9.5,-21.5) BJ38(10.5,-21.5) BJ39(11.5,-21.5) BJ40(12.5,-21.5) BJ41(13.5,-21.5) BJ42(14.5,-21.5) BJ43(15.5,-21.5) BJ44(16.5,-21.5) BJ45(17.5,-21.5) BJ46(18.5,-21.5) BJ47(19.5,-21.5) BJ48(20.5,-21.5) BJ49(21.5,-21.5) BJ50(22.5,-21.5) BJ51(23.5,-21.5) BJ52(24.5,-21.5) BJ53(25.5,-21.5) BJ54(26.5,-21.5) BK1(-26.5,-22.5) BK2(-25.5,-22.5) BK3(-24.5,-22.5) BK4(-23.5,-22.5) BK5(-22.5,-22.5) BK6(-21.5,-22.5) BK7(-20.5,-22.5) BK8(-19.5,-22.5) BK9(-18.5,-22.5) BK10(-17.5,-22.5) BK11(-16.5,-22.5) BK12(-15.5,-22.5) BK13(-14.5,-22.5) BK14(-13.5,-22.5) BK15(-12.5,-22.5) BK16(-11.5,-22.5) BK17(-10.5,-22.5) BK18(-9.5,-22.5) BK19(-8.5,-22.5) BK20(-7.5,-22.5) BK21(-6.5,-22.5) BK22(-5.5,-22.5) BK23(-4.5,-22.5) BK24(-3.5,-22.5) BK25(-2.5,-22.5) BK26(-1.5,-22.5) BK27(-0.5,-22.5) BK28(0.5,-22.5) BK29(1.5,-22.5) BK30(2.5,-22.5) BK31(3.5,-22.5) BK32(4.5,-22.5) BK33(5.5,-22.5) BK34(6.5,-22.5) BK35(7.5,-22.5) BK36(8.5,-22.5) BK37(9.5,-22.5) BK38(10.5,-22.5) BK39(11.5,-22.5) BK40(12.5,-22.5) BK41(13.5,-22.5) BK42(14.5,-22.5) BK43(15.5,-22.5) BK44(16.5,-22.5) BK45(17.5,-22.5) BK46(18.5,-22.5) BK47(19.5,-22.5) BK48(20.5,-22.5) BK49(21.5,-22.5) BK50(22.5,-22.5) BK51(23.5,-22.5) BK52(24.5,-22.5) BK53(25.5,-22.5) BK54(26.5,-22.5) BL1(-26.5,-23.5) BL2(-25.5,-23.5) BL3(-24.5,-23.5) BL4(-23.5,-23.5) BL5(-22.5,-23.5) BL6(-21.5,-23.5) BL7(-20.5,-23.5) BL8(-19.5,-23.5) BL9(-18.5,-23.5) BL10(-17.5,-23.5) BL11(-16.5,-23.5) BL12(-15.5,-23.5) BL13(-14.5,-23.5) BL14(-13.5,-23.5) BL15(-12.5,-23.5) BL16(-11.5,-23.5) BL17(-10.5,-23.5) BL18(-9.5,-23.5) BL19(-8.5,-23.5) BL20(-7.5,-23.5) BL21(-6.5,-23.5) BL22(-5.5,-23.5) BL23(-4.5,-23.5) BL24(-3.5,-23.5) BL25(-2.5,-23.5) BL26(-1.5,-23.5) BL27(-0.5,-23.5) BL28(0.5,-23.5) BL29(1.5,-23.5) BL30(2.5,-23.5) BL31(3.5,-23.5) BL32(4.5,-23.5) BL33(5.5,-23.5) BL34(6.5,-23.5) BL35(7.5,-23.5) BL36(8.5,-23.5) BL37(9.5,-23.5) BL38(10.5,-23.5) BL39(11.5,-23.5) BL40(12.5,-23.5) BL41(13.5,-23.5) BL42(14.5,-23.5) BL43(15.5,-23.5) BL44(16.5,-23.5) BL45(17.5,-23.5) BL46(18.5,-23.5) BL47(19.5,-23.5) BL48(20.5,-23.5) BL49(21.5,-23.5) BL50(22.5,-23.5) BL51(23.5,-23.5) BL52(24.5,-23.5) BL53(25.5,-23.5) BL54(26.5,-23.5) BM2(-25.5,-24.5) BM3(-24.5,-24.5) BM4(-23.5,-24.5) BM5(-22.5,-24.5) BM6(-21.5,-24.5) BM7(-20.5,-24.5) BM8(-19.5,-24.5) BM9(-18.5,-24.5) BM10(-17.5,-24.5) BM11(-16.5,-24.5) BM12(-15.5,-24.5) BM13(-14.5,-24.5) BM14(-13.5,-24.5) BM15(-12.5,-24.5) BM16(-11.5,-24.5) BM17(-10.5,-24.5) BM18(-9.5,-24.5) BM19(-8.5,-24.5) BM20(-7.5,-24.5) BM21(-6.5,-24.5) BM22(-5.5,-24.5) BM23(-4.5,-24.5) BM24(-3.5,-24.5) BM25(-2.5,-24.5) BM26(-1.5,-24.5) BM27(-0.5,-24.5) BM28(0.5,-24.5) BM29(1.5,-24.5) BM30(2.5,-24.5) BM31(3.5,-24.5) BM32(4.5,-24.5) BM33(5.5,-24.5) BM34(6.5,-24.5) BM35(7.5,-24.5) BM36(8.5,-24.5) BM37(9.5,-24.5) BM38(10.5,-24.5) BM39(11.5,-24.5) BM40(12.5,-24.5) BM41(13.5,-24.5) BM42(14.5,-24.5) BM43(15.5,-24.5) BM44(16.5,-24.5) BM45(17.5,-24.5) BM46(18.5,-24.5) BM47(19.5,-24.5) BM48(20.5,-24.5) BM49(21.5,-24.5) BM50(22.5,-24.5) BM51(23.5,-24.5) BM52(24.5,-24.5) BM53(25.5,-24.5) BN3(-24.5,-25.5) BN4(-23.5,-25.5) BN5(-22.5,-25.5) BN6(-21.5,-25.5) BN7(-20.5,-25.5) BN8(-19.5,-25.5) BN9(-18.5,-25.5) BN10(-17.5,-25.5) BN11(-16.5,-25.5) BN12(-15.5,-25.5) BN13(-14.5,-25.5) BN14(-13.5,-25.5) BN15(-12.5,-25.5) BN16(-11.5,-25.5) BN17(-10.5,-25.5) BN18(-9.5,-25.5) BN19(-8.5,-25.5) BN20(-7.5,-25.5) BN21(-6.5,-25.5) BN22(-5.5,-25.5) BN23(-4.5,-25.5) BN24(-3.5,-25.5) BN25(-2.5,-25.5) BN26(-1.5,-25.5) BN27(-0.5,-25.5) BN28(0.5,-25.5) BN29(1.5,-25.5) BN30(2.5,-25.5) BN31(3.5,-25.5) BN32(4.5,-25.5) BN33(5.5,-25.5) BN34(6.5,-25.5) BN35(7.5,-25.5) BN36(8.5,-25.5) BN37(9.5,-25.5) BN38(10.5,-25.5) BN39(11.5,-25.5) BN40(12.5,-25.5) BN41(13.5,-25.5) BN42(14.5,-25.5) BN43(15.5,-25.5) BN44(16.5,-25.5) BN45(17.5,-25.5) BN46(18.5,-25.5) BN47(19.5,-25.5) BN48(20.5,-25.5) BN49(21.5,-25.5) BN50(22.5,-25.5) BN51(23.5,-25.5) BN52(24.5,-25.5) BP4(-23.5,-26.5) BP5(-22.5,-26.5) BP6(-21.5,-26.5) BP7(-20.5,-26.5) BP8(-19.5,-26.5) BP9(-18.5,-26.5) BP10(-17.5,-26.5) BP11(-16.5,-26.5) BP12(-15.5,-26.5) BP13(-14.5,-26.5) BP14(-13.5,-26.5) BP15(-12.5,-26.5) BP16(-11.5,-26.5) BP17(-10.5,-26.5) BP18(-9.5,-26.5) BP19(-8.5,-26.5) BP20(-7.5,-26.5) BP21(-6.5,-26.5) BP22(-5.5,-26.5) BP23(-4.5,-26.5) BP24(-3.5,-26.5) BP25(-2.5,-26.5) BP26(-1.5,-26.5) BP27(-0.5,-26.5) BP28(0.5,-26.5) BP29(1.5,-26.5) BP30(2.5,-26.5) BP31(3.5,-26.5) BP32(4.5,-26.5) BP33(5.5,-26.5) BP34(6.5,-26.5) BP35(7.5,-26.5) BP36(8.5,-26.5) BP37(9.5,-26.5) BP38(10.5,-26.5) BP39(11.5,-26.5) BP40(12.5,-26.5) BP41(13.5,-26.5) BP42(14.5,-26.5) BP43(15.5,-26.5) BP44(16.5,-26.5) BP45(17.5,-26.5) BP46(18.5,-26.5) BP47(19.5,-26.5) BP48(20.5,-26.5) BP49(21.5,-26.5) BP50(22.5,-26.5) BP51(23.5,-26.5) C2(-25.5,24.5) C3(-24.5,24.5) C4(-23.5,24.5) C5(-22.5,24.5) C6(-21.5,24.5) C7(-20.5,24.5) C8(-19.5,24.5) C9(-18.5,24.5) C10(-17.5,24.5) C11(-16.5,24.5) C12(-15.5,24.5) C13(-14.5,24.5) C14(-13.5,24.5) C15(-12.5,24.5) C16(-11.5,24.5) C17(-10.5,24.5) C18(-9.5,24.5) C19(-8.5,24.5) C20(-7.5,24.5) C21(-6.5,24.5) C22(-5.5,24.5) C23(-4.5,24.5) C24(-3.5,24.5) C25(-2.5,24.5) C26(-1.5,24.5) C27(-0.5,24.5) C28(0.5,24.5) C29(1.5,24.5) C30(2.5,24.5) C31(3.5,24.5) C32(4.5,24.5) C33(5.5,24.5) C34(6.5,24.5) C35(7.5,24.5) C36(8.5,24.5) C37(9.5,24.5) C38(10.5,24.5) C39(11.5,24.5) C40(12.5,24.5) C41(13.5,24.5) C42(14.5,24.5) C43(15.5,24.5) C44(16.5,24.5) C45(17.5,24.5) C46(18.5,24.5) C47(19.5,24.5) C48(20.5,24.5) C49(21.5,24.5) C50(22.5,24.5) C51(23.5,24.5) C52(24.5,24.5) C53(25.5,24.5) D1(-26.5,23.5) D2(-25.5,23.5) D3(-24.5,23.5) D4(-23.5,23.5) D5(-22.5,23.5) D6(-21.5,23.5) D7(-20.5,23.5) D8(-19.5,23.5) D9(-18.5,23.5) D10(-17.5,23.5) D11(-16.5,23.5) D12(-15.5,23.5) D13(-14.5,23.5) D14(-13.5,23.5) D15(-12.5,23.5) D16(-11.5,23.5) D17(-10.5,23.5) D18(-9.5,23.5) D19(-8.5,23.5) D20(-7.5,23.5) D21(-6.5,23.5) D22(-5.5,23.5) D23(-4.5,23.5) D24(-3.5,23.5) D25(-2.5,23.5) D26(-1.5,23.5) D27(-0.5,23.5) D28(0.5,23.5) D29(1.5,23.5) D30(2.5,23.5) D31(3.5,23.5) D32(4.5,23.5) D33(5.5,23.5) D34(6.5,23.5) D35(7.5,23.5) D36(8.5,23.5) D37(9.5,23.5) D38(10.5,23.5) D39(11.5,23.5) D40(12.5,23.5) D41(13.5,23.5) D42(14.5,23.5) D43(15.5,23.5) D44(16.5,23.5) D45(17.5,23.5) D46(18.5,23.5) D47(19.5,23.5) D48(20.5,23.5) D49(21.5,23.5) D50(22.5,23.5) D51(23.5,23.5) D52(24.5,23.5) D53(25.5,23.5) D54(26.5,23.5) E1(-26.5,22.5) E2(-25.5,22.5) E3(-24.5,22.5) E4(-23.5,22.5) E5(-22.5,22.5) E6(-21.5,22.5) E7(-20.5,22.5) E8(-19.5,22.5) E9(-18.5,22.5) E10(-17.5,22.5) E11(-16.5,22.5) E12(-15.5,22.5) E13(-14.5,22.5) E14(-13.5,22.5) E15(-12.5,22.5) E16(-11.5,22.5) E17(-10.5,22.5) E18(-9.5,22.5) E19(-8.5,22.5) E20(-7.5,22.5) E21(-6.5,22.5) E22(-5.5,22.5) E23(-4.5,22.5) E24(-3.5,22.5) E25(-2.5,22.5) E26(-1.5,22.5) E27(-0.5,22.5) E28(0.5,22.5) E29(1.5,22.5) E30(2.5,22.5) E31(3.5,22.5) E32(4.5,22.5) E33(5.5,22.5) E34(6.5,22.5) E35(7.5,22.5) E36(8.5,22.5) E37(9.5,22.5) E38(10.5,22.5) E39(11.5,22.5) E40(12.5,22.5) E41(13.5,22.5) E42(14.5,22.5) E43(15.5,22.5) E44(16.5,22.5) E45(17.5,22.5) E46(18.5,22.5) E47(19.5,22.5) E48(20.5,22.5) E49(21.5,22.5) E50(22.5,22.5) E51(23.5,22.5) E52(24.5,22.5) E53(25.5,22.5) E54(26.5,22.5) F1(-26.5,21.5) F2(-25.5,21.5) F3(-24.5,21.5) F4(-23.5,21.5) F5(-22.5,21.5) F6(-21.5,21.5) F7(-20.5,21.5) F8(-19.5,21.5) F9(-18.5,21.5) F10(-17.5,21.5) F11(-16.5,21.5) F12(-15.5,21.5) F13(-14.5,21.5) F14(-13.5,21.5) F15(-12.5,21.5) F16(-11.5,21.5) F17(-10.5,21.5) F18(-9.5,21.5) F19(-8.5,21.5) F20(-7.5,21.5) F21(-6.5,21.5) F22(-5.5,21.5) F23(-4.5,21.5) F24(-3.5,21.5) F25(-2.5,21.5) F26(-1.5,21.5) F27(-0.5,21.5) F28(0.5,21.5) F29(1.5,21.5) F30(2.5,21.5) F31(3.5,21.5) F32(4.5,21.5) F33(5.5,21.5) F34(6.5,21.5) F35(7.5,21.5) F36(8.5,21.5) F37(9.5,21.5) F38(10.5,21.5) F39(11.5,21.5) F40(12.5,21.5) F41(13.5,21.5) F42(14.5,21.5) F43(15.5,21.5) F44(16.5,21.5) F45(17.5,21.5) F46(18.5,21.5) F47(19.5,21.5) F48(20.5,21.5) F49(21.5,21.5) F50(22.5,21.5) F51(23.5,21.5) F52(24.5,21.5) F53(25.5,21.5) F54(26.5,21.5) G1(-26.5,20.5) G2(-25.5,20.5) G3(-24.5,20.5) G4(-23.5,20.5) G5(-22.5,20.5) G6(-21.5,20.5) G7(-20.5,20.5) G8(-19.5,20.5) G9(-18.5,20.5) G10(-17.5,20.5) G11(-16.5,20.5) G12(-15.5,20.5) G13(-14.5,20.5) G14(-13.5,20.5) G15(-12.5,20.5) G16(-11.5,20.5) G17(-10.5,20.5) G18(-9.5,20.5) G19(-8.5,20.5) G20(-7.5,20.5) G21(-6.5,20.5) G22(-5.5,20.5) G23(-4.5,20.5) G24(-3.5,20.5) G25(-2.5,20.5) G26(-1.5,20.5) G27(-0.5,20.5) G28(0.5,20.5) G29(1.5,20.5) G30(2.5,20.5) G31(3.5,20.5) G32(4.5,20.5) G33(5.5,20.5) G34(6.5,20.5) G35(7.5,20.5) G36(8.5,20.5) G37(9.5,20.5) G38(10.5,20.5) G39(11.5,20.5) G40(12.5,20.5) G41(13.5,20.5) G42(14.5,20.5) G43(15.5,20.5) G44(16.5,20.5) G45(17.5,20.5) G46(18.5,20.5) G47(19.5,20.5) G48(20.5,20.5) G49(21.5,20.5) G50(22.5,20.5) G51(23.5,20.5) G52(24.5,20.5) G53(25.5,20.5) G54(26.5,20.5) H1(-26.5,19.5) H2(-25.5,19.5) H3(-24.5,19.5) H4(-23.5,19.5) H5(-22.5,19.5) H6(-21.5,19.5) H7(-20.5,19.5) H8(-19.5,19.5) H9(-18.5,19.5) H10(-17.5,19.5) H11(-16.5,19.5) H12(-15.5,19.5) H13(-14.5,19.5) H14(-13.5,19.5) H15(-12.5,19.5) H16(-11.5,19.5) H17(-10.5,19.5) H18(-9.5,19.5) H19(-8.5,19.5) H20(-7.5,19.5) H21(-6.5,19.5) H22(-5.5,19.5) H23(-4.5,19.5) H24(-3.5,19.5) H25(-2.5,19.5) H26(-1.5,19.5) H27(-0.5,19.5) H28(0.5,19.5) H29(1.5,19.5) H30(2.5,19.5) H31(3.5,19.5) H32(4.5,19.5) H33(5.5,19.5) H34(6.5,19.5) H35(7.5,19.5) H36(8.5,19.5) H37(9.5,19.5) H38(10.5,19.5) H39(11.5,19.5) H40(12.5,19.5) H41(13.5,19.5) H42(14.5,19.5) H43(15.5,19.5) H44(16.5,19.5) H45(17.5,19.5) H46(18.5,19.5) H47(19.5,19.5) H48(20.5,19.5) H49(21.5,19.5) H50(22.5,19.5) H51(23.5,19.5) H52(24.5,19.5) H53(25.5,19.5) H54(26.5,19.5) J1(-26.5,18.5) J2(-25.5,18.5) J3(-24.5,18.5) J4(-23.5,18.5) J5(-22.5,18.5) J6(-21.5,18.5) J7(-20.5,18.5) J8(-19.5,18.5) J9(-18.5,18.5) J10(-17.5,18.5) J11(-16.5,18.5) J12(-15.5,18.5) J13(-14.5,18.5) J14(-13.5,18.5) J15(-12.5,18.5) J16(-11.5,18.5) J17(-10.5,18.5) J18(-9.5,18.5) J19(-8.5,18.5) J20(-7.5,18.5) J21(-6.5,18.5) J22(-5.5,18.5) J23(-4.5,18.5) J24(-3.5,18.5) J25(-2.5,18.5) J26(-1.5,18.5) J27(-0.5,18.5) J28(0.5,18.5) J29(1.5,18.5) J30(2.5,18.5) J31(3.5,18.5) J32(4.5,18.5) J33(5.5,18.5) J34(6.5,18.5) J35(7.5,18.5) J36(8.5,18.5) J37(9.5,18.5) J38(10.5,18.5) J39(11.5,18.5) J40(12.5,18.5) J41(13.5,18.5) J42(14.5,18.5) J43(15.5,18.5) J44(16.5,18.5) J45(17.5,18.5) J46(18.5,18.5) J47(19.5,18.5) J48(20.5,18.5) J49(21.5,18.5) J50(22.5,18.5) J51(23.5,18.5) J52(24.5,18.5) J53(25.5,18.5) J54(26.5,18.5) K1(-26.5,17.5) K2(-25.5,17.5) K3(-24.5,17.5) K4(-23.5,17.5) K5(-22.5,17.5) K6(-21.5,17.5) K7(-20.5,17.5) K8(-19.5,17.5) K9(-18.5,17.5) K10(-17.5,17.5) K11(-16.5,17.5) K12(-15.5,17.5) K13(-14.5,17.5) K14(-13.5,17.5) K15(-12.5,17.5) K16(-11.5,17.5) K17(-10.5,17.5) K18(-9.5,17.5) K19(-8.5,17.5) K20(-7.5,17.5) K21(-6.5,17.5) K22(-5.5,17.5) K23(-4.5,17.5) K24(-3.5,17.5) K25(-2.5,17.5) K26(-1.5,17.5) K27(-0.5,17.5) K28(0.5,17.5) K29(1.5,17.5) K30(2.5,17.5) K31(3.5,17.5) K32(4.5,17.5) K33(5.5,17.5) K34(6.5,17.5) K35(7.5,17.5) K36(8.5,17.5) K37(9.5,17.5) K38(10.5,17.5) K39(11.5,17.5) K40(12.5,17.5) K41(13.5,17.5) K42(14.5,17.5) K43(15.5,17.5) K44(16.5,17.5) K45(17.5,17.5) K46(18.5,17.5) K47(19.5,17.5) K48(20.5,17.5) K49(21.5,17.5) K50(22.5,17.5) K51(23.5,17.5) K52(24.5,17.5) K53(25.5,17.5) K54(26.5,17.5) L1(-26.5,16.5) L2(-25.5,16.5) L3(-24.5,16.5) L4(-23.5,16.5) L5(-22.5,16.5) L6(-21.5,16.5) L7(-20.5,16.5) L8(-19.5,16.5) L9(-18.5,16.5) L10(-17.5,16.5) L11(-16.5,16.5) L12(-15.5,16.5) L13(-14.5,16.5) L14(-13.5,16.5) L15(-12.5,16.5) L16(-11.5,16.5) L17(-10.5,16.5) L18(-9.5,16.5) L19(-8.5,16.5) L20(-7.5,16.5) L21(-6.5,16.5) L22(-5.5,16.5) L23(-4.5,16.5) L24(-3.5,16.5) L25(-2.5,16.5) L26(-1.5,16.5) L27(-0.5,16.5) L28(0.5,16.5) L29(1.5,16.5) L30(2.5,16.5) L31(3.5,16.5) L32(4.5,16.5) L33(5.5,16.5) L34(6.5,16.5) L35(7.5,16.5) L36(8.5,16.5) L37(9.5,16.5) L38(10.5,16.5) L39(11.5,16.5) L40(12.5,16.5) L41(13.5,16.5) L42(14.5,16.5) L43(15.5,16.5) L44(16.5,16.5) L45(17.5,16.5) L46(18.5,16.5) L47(19.5,16.5) L48(20.5,16.5) L49(21.5,16.5) L50(22.5,16.5) L51(23.5,16.5) L52(24.5,16.5) L53(25.5,16.5) L54(26.5,16.5) M1(-26.5,15.5) M2(-25.5,15.5) M3(-24.5,15.5) M4(-23.5,15.5) M5(-22.5,15.5) M6(-21.5,15.5) M7(-20.5,15.5) M8(-19.5,15.5) M9(-18.5,15.5) M10(-17.5,15.5) M11(-16.5,15.5) M12(-15.5,15.5) M13(-14.5,15.5) M14(-13.5,15.5) M15(-12.5,15.5) M16(-11.5,15.5) M17(-10.5,15.5) M18(-9.5,15.5) M19(-8.5,15.5) M20(-7.5,15.5) M21(-6.5,15.5) M22(-5.5,15.5) M23(-4.5,15.5) M24(-3.5,15.5) M25(-2.5,15.5) M26(-1.5,15.5) M27(-0.5,15.5) M28(0.5,15.5) M29(1.5,15.5) M30(2.5,15.5) M31(3.5,15.5) M32(4.5,15.5) M33(5.5,15.5) M34(6.5,15.5) M35(7.5,15.5) M36(8.5,15.5) M37(9.5,15.5) M38(10.5,15.5) M39(11.5,15.5) M40(12.5,15.5) M41(13.5,15.5) M42(14.5,15.5) M43(15.5,15.5) M44(16.5,15.5) M45(17.5,15.5) M46(18.5,15.5) M47(19.5,15.5) M48(20.5,15.5) M49(21.5,15.5) M50(22.5,15.5) M51(23.5,15.5) M52(24.5,15.5) M53(25.5,15.5) M54(26.5,15.5) N1(-26.5,14.5) N2(-25.5,14.5) N3(-24.5,14.5) N4(-23.5,14.5) N5(-22.5,14.5) N6(-21.5,14.5) N7(-20.5,14.5) N8(-19.5,14.5) N9(-18.5,14.5) N10(-17.5,14.5) N11(-16.5,14.5) N12(-15.5,14.5) N13(-14.5,14.5) N14(-13.5,14.5) N15(-12.5,14.5) N16(-11.5,14.5) N17(-10.5,14.5) N18(-9.5,14.5) N19(-8.5,14.5) N20(-7.5,14.5) N21(-6.5,14.5) N22(-5.5,14.5) N23(-4.5,14.5) N24(-3.5,14.5) N25(-2.5,14.5) N26(-1.5,14.5) N27(-0.5,14.5) N28(0.5,14.5) N29(1.5,14.5) N30(2.5,14.5) N31(3.5,14.5) N32(4.5,14.5) N33(5.5,14.5) N34(6.5,14.5) N35(7.5,14.5) N36(8.5,14.5) N37(9.5,14.5) N38(10.5,14.5) N39(11.5,14.5) N40(12.5,14.5) N41(13.5,14.5) N42(14.5,14.5) N43(15.5,14.5) N44(16.5,14.5) N45(17.5,14.5) N46(18.5,14.5) N47(19.5,14.5) N48(20.5,14.5) N49(21.5,14.5) N50(22.5,14.5) N51(23.5,14.5) N52(24.5,14.5) N53(25.5,14.5) N54(26.5,14.5) P1(-26.5,13.5) P2(-25.5,13.5) P3(-24.5,13.5) P4(-23.5,13.5) P5(-22.5,13.5) P6(-21.5,13.5) P7(-20.5,13.5) P8(-19.5,13.5) P9(-18.5,13.5) P10(-17.5,13.5) P11(-16.5,13.5) P12(-15.5,13.5) P13(-14.5,13.5) P14(-13.5,13.5) P15(-12.5,13.5) P16(-11.5,13.5) P17(-10.5,13.5) P18(-9.5,13.5) P19(-8.5,13.5) P20(-7.5,13.5) P21(-6.5,13.5) P22(-5.5,13.5) P23(-4.5,13.5) P24(-3.5,13.5) P25(-2.5,13.5) P26(-1.5,13.5) P27(-0.5,13.5) P28(0.5,13.5) P29(1.5,13.5) P30(2.5,13.5) P31(3.5,13.5) P32(4.5,13.5) P33(5.5,13.5) P34(6.5,13.5) P35(7.5,13.5) P36(8.5,13.5) P37(9.5,13.5) P38(10.5,13.5) P39(11.5,13.5) P40(12.5,13.5) P41(13.5,13.5) P42(14.5,13.5) P43(15.5,13.5) P44(16.5,13.5) P45(17.5,13.5) P46(18.5,13.5) P47(19.5,13.5) P48(20.5,13.5) P49(21.5,13.5) P50(22.5,13.5) P51(23.5,13.5) P52(24.5,13.5) P53(25.5,13.5) P54(26.5,13.5) R1(-26.5,12.5) R2(-25.5,12.5) R3(-24.5,12.5) R4(-23.5,12.5) R5(-22.5,12.5) R6(-21.5,12.5) R7(-20.5,12.5) R8(-19.5,12.5) R9(-18.5,12.5) R10(-17.5,12.5) R11(-16.5,12.5) R12(-15.5,12.5) R13(-14.5,12.5) R14(-13.5,12.5) R15(-12.5,12.5) R16(-11.5,12.5) R17(-10.5,12.5) R18(-9.5,12.5) R19(-8.5,12.5) R20(-7.5,12.5) R21(-6.5,12.5) R22(-5.5,12.5) R23(-4.5,12.5) R24(-3.5,12.5) R25(-2.5,12.5) R26(-1.5,12.5) R27(-0.5,12.5) R28(0.5,12.5) R29(1.5,12.5) R30(2.5,12.5) R31(3.5,12.5) R32(4.5,12.5) R33(5.5,12.5) R34(6.5,12.5) R35(7.5,12.5) R36(8.5,12.5) R37(9.5,12.5) R38(10.5,12.5) R39(11.5,12.5) R40(12.5,12.5) R41(13.5,12.5) R42(14.5,12.5) R43(15.5,12.5) R44(16.5,12.5) R45(17.5,12.5) R46(18.5,12.5) R47(19.5,12.5) R48(20.5,12.5) R49(21.5,12.5) R50(22.5,12.5) R51(23.5,12.5) R52(24.5,12.5) R53(25.5,12.5) R54(26.5,12.5) T1(-26.5,11.5) T2(-25.5,11.5) T3(-24.5,11.5) T4(-23.5,11.5) T5(-22.5,11.5) T6(-21.5,11.5) T7(-20.5,11.5) T8(-19.5,11.5) T9(-18.5,11.5) T10(-17.5,11.5) T11(-16.5,11.5) T12(-15.5,11.5) T13(-14.5,11.5) T14(-13.5,11.5) T15(-12.5,11.5) T16(-11.5,11.5) T17(-10.5,11.5) T18(-9.5,11.5) T19(-8.5,11.5) T20(-7.5,11.5) T21(-6.5,11.5) T22(-5.5,11.5) T23(-4.5,11.5) T24(-3.5,11.5) T25(-2.5,11.5) T26(-1.5,11.5) T27(-0.5,11.5) T28(0.5,11.5) T29(1.5,11.5) T30(2.5,11.5) T31(3.5,11.5) T32(4.5,11.5) T33(5.5,11.5) T34(6.5,11.5) T35(7.5,11.5) T36(8.5,11.5) T37(9.5,11.5) T38(10.5,11.5) T39(11.5,11.5) T40(12.5,11.5) T41(13.5,11.5) T42(14.5,11.5) T43(15.5,11.5) T44(16.5,11.5) T45(17.5,11.5) T46(18.5,11.5) T47(19.5,11.5) T48(20.5,11.5) T49(21.5,11.5) T50(22.5,11.5) T51(23.5,11.5) T52(24.5,11.5) T53(25.5,11.5) T54(26.5,11.5) U1(-26.5,10.5) U2(-25.5,10.5) U3(-24.5,10.5) U4(-23.5,10.5) U5(-22.5,10.5) U6(-21.5,10.5) U7(-20.5,10.5) U8(-19.5,10.5) U9(-18.5,10.5) U10(-17.5,10.5) U11(-16.5,10.5) U12(-15.5,10.5) U13(-14.5,10.5) U14(-13.5,10.5) U15(-12.5,10.5) U16(-11.5,10.5) U17(-10.5,10.5) U18(-9.5,10.5) U19(-8.5,10.5) U20(-7.5,10.5) U21(-6.5,10.5) U22(-5.5,10.5) U23(-4.5,10.5) U24(-3.5,10.5) U25(-2.5,10.5) U26(-1.5,10.5) U27(-0.5,10.5) U28(0.5,10.5) U29(1.5,10.5) U30(2.5,10.5) U31(3.5,10.5) U32(4.5,10.5) U33(5.5,10.5) U34(6.5,10.5) U35(7.5,10.5) U36(8.5,10.5) U37(9.5,10.5) U38(10.5,10.5) U39(11.5,10.5) U40(12.5,10.5) U41(13.5,10.5) U42(14.5,10.5) U43(15.5,10.5) U44(16.5,10.5) U45(17.5,10.5) U46(18.5,10.5) U47(19.5,10.5) U48(20.5,10.5) U49(21.5,10.5) U50(22.5,10.5) U51(23.5,10.5) U52(24.5,10.5) U53(25.5,10.5) U54(26.5,10.5) V1(-26.5,9.5) V2(-25.5,9.5) V3(-24.5,9.5) V4(-23.5,9.5) V5(-22.5,9.5) V6(-21.5,9.5) V7(-20.5,9.5) V8(-19.5,9.5) V9(-18.5,9.5) V10(-17.5,9.5) V11(-16.5,9.5) V12(-15.5,9.5) V13(-14.5,9.5) V14(-13.5,9.5) V15(-12.5,9.5) V16(-11.5,9.5) V17(-10.5,9.5) V18(-9.5,9.5) V19(-8.5,9.5) V20(-7.5,9.5) V21(-6.5,9.5) V22(-5.5,9.5) V23(-4.5,9.5) V24(-3.5,9.5) V25(-2.5,9.5) V26(-1.5,9.5) V27(-0.5,9.5) V28(0.5,9.5) V29(1.5,9.5) V30(2.5,9.5) V31(3.5,9.5) V32(4.5,9.5) V33(5.5,9.5) V34(6.5,9.5) V35(7.5,9.5) V36(8.5,9.5) V37(9.5,9.5) V38(10.5,9.5) V39(11.5,9.5) V40(12.5,9.5) V41(13.5,9.5) V42(14.5,9.5) V43(15.5,9.5) V44(16.5,9.5) V45(17.5,9.5) V46(18.5,9.5) V47(19.5,9.5) V48(20.5,9.5) V49(21.5,9.5) V50(22.5,9.5) V51(23.5,9.5) V52(24.5,9.5) V53(25.5,9.5) V54(26.5,9.5) W1(-26.5,8.5) W2(-25.5,8.5) W3(-24.5,8.5) W4(-23.5,8.5) W5(-22.5,8.5) W6(-21.5,8.5) W7(-20.5,8.5) W8(-19.5,8.5) W9(-18.5,8.5) W10(-17.5,8.5) W11(-16.5,8.5) W12(-15.5,8.5) W13(-14.5,8.5) W14(-13.5,8.5) W15(-12.5,8.5) W16(-11.5,8.5) W17(-10.5,8.5) W18(-9.5,8.5) W19(-8.5,8.5) W20(-7.5,8.5) W21(-6.5,8.5) W22(-5.5,8.5) W23(-4.5,8.5) W24(-3.5,8.5) W25(-2.5,8.5) W26(-1.5,8.5) W27(-0.5,8.5) W28(0.5,8.5) W29(1.5,8.5) W30(2.5,8.5) W31(3.5,8.5) W32(4.5,8.5) W33(5.5,8.5) W34(6.5,8.5) W35(7.5,8.5) W36(8.5,8.5) W37(9.5,8.5) W38(10.5,8.5) W39(11.5,8.5) W40(12.5,8.5) W41(13.5,8.5) W42(14.5,8.5) W43(15.5,8.5) W44(16.5,8.5) W45(17.5,8.5) W46(18.5,8.5) W47(19.5,8.5) W48(20.5,8.5) W49(21.5,8.5) W50(22.5,8.5) W51(23.5,8.5) W52(24.5,8.5) W53(25.5,8.5) W54(26.5,8.5) Y1(-26.5,7.5) Y2(-25.5,7.5) Y3(-24.5,7.5) Y4(-23.5,7.5) Y5(-22.5,7.5) Y6(-21.5,7.5) Y7(-20.5,7.5) Y8(-19.5,7.5) Y9(-18.5,7.5) Y10(-17.5,7.5) Y11(-16.5,7.5) Y12(-15.5,7.5) Y13(-14.5,7.5) Y14(-13.5,7.5) Y15(-12.5,7.5) Y16(-11.5,7.5) Y17(-10.5,7.5) Y18(-9.5,7.5) Y19(-8.5,7.5) Y20(-7.5,7.5) Y21(-6.5,7.5) Y22(-5.5,7.5) Y23(-4.5,7.5) Y24(-3.5,7.5) Y25(-2.5,7.5) Y26(-1.5,7.5) Y27(-0.5,7.5) Y28(0.5,7.5) Y29(1.5,7.5) Y30(2.5,7.5) Y31(3.5,7.5) Y32(4.5,7.5) Y33(5.5,7.5) Y34(6.5,7.5) Y35(7.5,7.5) Y36(8.5,7.5) Y37(9.5,7.5) Y38(10.5,7.5) Y39(11.5,7.5) Y40(12.5,7.5) Y41(13.5,7.5) Y42(14.5,7.5) Y43(15.5,7.5) Y44(16.5,7.5) Y45(17.5,7.5) Y46(18.5,7.5) Y47(19.5,7.5) Y48(20.5,7.5) Y49(21.5,7.5) Y50(22.5,7.5) Y51(23.5,7.5) Y52(24.5,7.5) Y53(25.5,7.5) Y54(26.5,7.5)
TopOverlay:
  circle w0.2: c-27.5,27.5 r0.1
  lines w0.2: -27.5,-27.5 27.5,-27.5 27.5,27.5 -26.5,27.5 -27.5,26.5 -27.5,-27.5
Mechanical15:
  lines w0.1: -27.5,13.75 -13.75,27.5 ; -27.5,-27.5 27.5,-27.5 27.5,27.5 -27.5,27.5 -27.5,-27.5
3D body "XCVU37P-L2FSVH2892E.stp": height 4.51, standoff 0, extent -27.5,-27.5 27.5,27.5

## BGA127_40_6X11 [mm] "BGA, 5X8, 1.27mm, 6.25x11.25x5.12mm"
height 4.9
pads (40):
  round 0.6 smd mask+0.1: A1(-2.54,4.445) A2(-1.27,4.445) A3(0,4.445) A4(1.27,4.445) A5(2.54,4.445) B1(-2.54,3.175) B2(-1.27,3.175) B3(0,3.175) B4(1.27,3.175) B5(2.54,3.175) C1(-2.54,1.905) C2(-1.27,1.905) C3(0,1.905) C4(1.27,1.905) C5(2.54,1.905) D1(-2.54,0.635) D2(-1.27,0.635) D3(0,0.635) D4(1.27,0.635) D5(2.54,0.635) E1(-2.54,-0.635) E2(-1.27,-0.635) E3(0,-0.635) E4(1.27,-0.635) E5(2.54,-0.635) F1(-2.54,-1.905) F2(-1.27,-1.905) F3(0,-1.905) F4(1.27,-1.905) F5(2.54,-1.905) G1(-2.54,-3.175) G2(-1.27,-3.175) G3(0,-3.175) G4(1.27,-3.175) G5(2.54,-3.175) H1(-2.54,-4.445) H2(-1.27,-4.445) H3(0,-4.445) H4(1.27,-4.445) H5(2.54,-4.445)
TopOverlay:
  circle w0.2: c-3.8,5.4 r0.2
  lines w0.2: -3.2,-5.6 3.2,-5.6 3.2,5.7 -3.2,5.7 -3.2,-5.6
Mechanical13:
  lines w0.1: -3.125,2.812 -0.313,5.624 ; -3.125,-5.625 3.125,-5.625 3.125,5.625 -3.125,5.625 -3.125,-5.625
Mechanical15:
  lines w0.05: -5.125,-7.625 5.125,-7.625 5.125,7.625 -5.125,7.625 -5.125,-7.625
3D body "LTM8045IY#PBF.stp": height 5.12, standoff 0, extent -3.125,-5.625 3.125,5.625